# EAGLE library part ADS1015IDGST (library FSEWeatherShield)
Ultra-Small, Low-Power, 12-Bit Analog-to-Digital Converter with Internal Reference
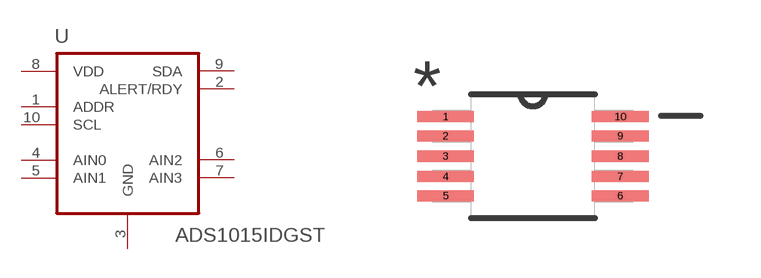
[diagram p5: symbol with the pads of SOP50P490X110-10N; footprint SOP50P490X110-10N]

Designator prefix U

## ADS1015IDGST (MPN: ADS1015IDGST; OC_FARNELL: 1778211; OC_NEWARK: 35R0211; PACKAGE: MSOP-10; SUPPLIER: Texas Instruments)  [SOP50P490X110-10N]
1  ADDR  in
2  ALERT/RDY  out
3  GND  pas
4  AIN0  in
5  AIN1  in
6  AIN2  nc
7  AIN3  nc
8  VDD  pwr
9  SDA
10  SCL  in

## Footprint SOP50P490X110-10N (pad centres in mm)
smd 1.422 x 0.279: 1 -2.184,0.991; 2 -2.184,0.508; 3 -2.184,0; 4 -2.184,-0.508; 5 -2.184,-0.991; 6 2.184,-0.991; 7 2.184,-0.508; 8 2.184,0; 9 2.184,0.508; 10 2.184,0.991